# Altium footprint library BOURNS_SRP1265A.PcbLib: 1 footprints
Each footprint in its own frame and in the unit in brackets; x right, y up, seen from the top. Pads: shape width x height; smd on the part's side, far side on the other; paste and mask are expansions set on the pad; w line width, h text height; cw(c..) or ccw(c..) is an arc to the next point about the centre after c.
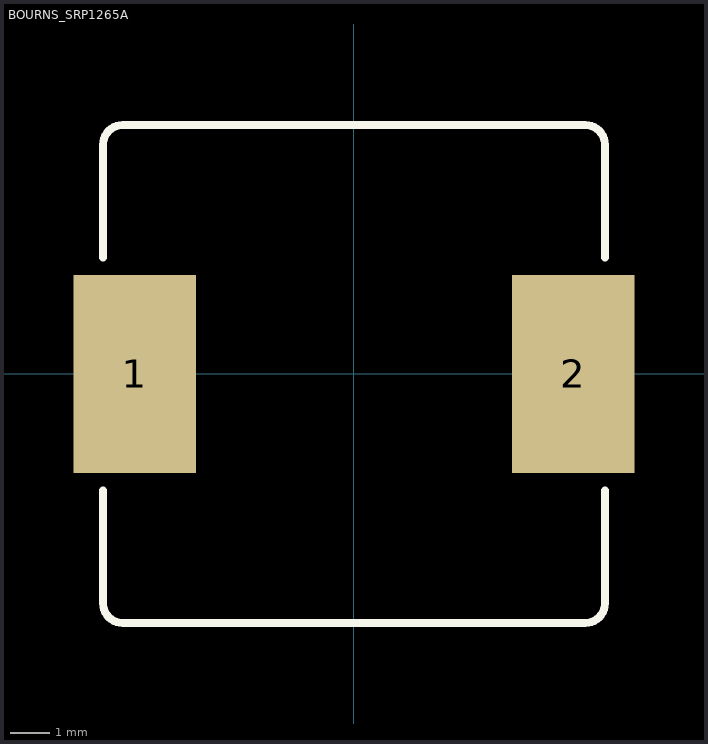
[diagram p0: the footprint, top view; thin cyan lines are the x and y axes]

## BOURNS_SRP1265A [mm] "Bourns SRP1265A series"
pads (2):
  rect 3.1x5 smd: 1(-5.55,0) 2(5.55,0)
Top Overlay:
  lines w0.2: -6.35,-2.95 -6.35,-5.8 ccw(c-5.85,-5.8) -5.85,-6.3 5.85,-6.3 ccw(c5.85,-5.8) 6.35,-5.8 6.35,-2.95 ; -6.35,2.95 -6.35,5.8 cw(c-5.85,5.8) -5.85,6.3 5.85,6.3 cw(c5.85,5.8) 6.35,5.8 6.35,2.95
3D body "Bourns_SRP1265A_series.stp": height 6.31, standoff 0, extent -6.45,-6.25 6.45,6.25